# EAGLE library part ICL7135CPIZ (library Intersil_By_element14_Batch_1)
BCD Output, A/D Converter
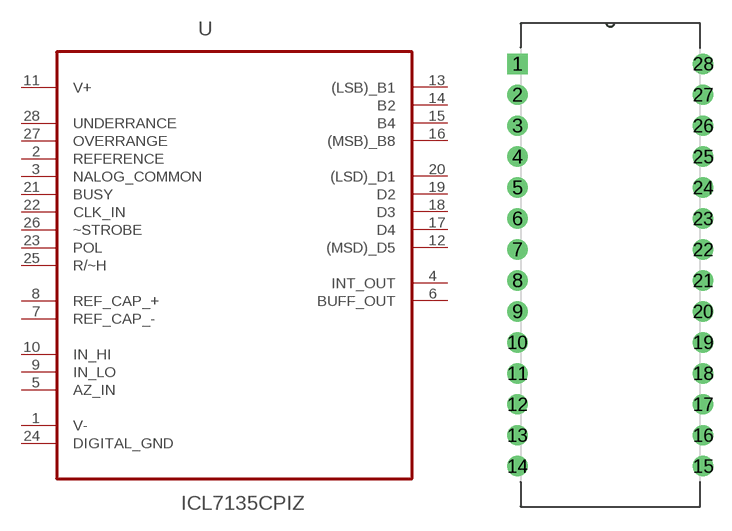
[diagram p173: symbol with the pads of DIP254P1524X635-28; footprint DIP254P1524X635-28]

Designator prefix U

## ICL7135CPIZ (MPN: ICL7135CPIZ; OC_FARNELL: 9663584; OC_NEWARK: 61J6196; PACKAGE: PCDIP-28; SUPPLIER: INTERSIL)  [DIP254P1524X635-28]
1  V-  pwr
2  REFERENCE  in
3  NALOG_COMMON  in
4  INT_OUT
5  AZ_IN  in
6  BUFF_OUT  out
7  REF_CAP_-  in
8  REF_CAP_+  in
9  IN_LO  in
10  IN_HI  in
11  V+  pwr
12  (MSD)_D5  out
13  (LSB)_B1  out
14  B2  out
15  B4  out
16  (MSB)_B8  out
17  D4  out
18  D3  out
19  D2  out
20  (LSD)_D1  out
21  BUSY  in
22  CLK_IN  in
23  POL  in
24  DIGITAL_GND  pas
25  R/~H  in
26  ~STROBE  in
27  OVERRANGE  pas
28  UNDERRANCE  pas

## Footprint DIP254P1524X635-28 (pad centres in mm)
drill 1.118 square: 1 -15.24,33.02
drill 1.118: 2 -15.24,30.48; 3 -15.24,27.94; 4 -15.24,25.4; 5 -15.24,22.86; 6 -15.24,20.32; 7 -15.24,17.78; 8 -15.24,15.24; 9 -15.24,12.7; 10 -15.24,10.16; 11 -15.24,7.62; 12 -15.24,5.08; 13 -15.24,2.54; 14 -15.24,0; 15 0,0; 16 0,2.54; 17 0,5.08; 18 0,7.62; 19 0,10.16; 20 0,12.7; 21 0,15.24; 22 0,17.78; 23 0,20.32; 24 0,22.86; 25 0,25.4; 26 0,27.94; 27 0,30.48; 28 0,33.02